# EAGLE library part FI_7M5P (library dtoy-RF)
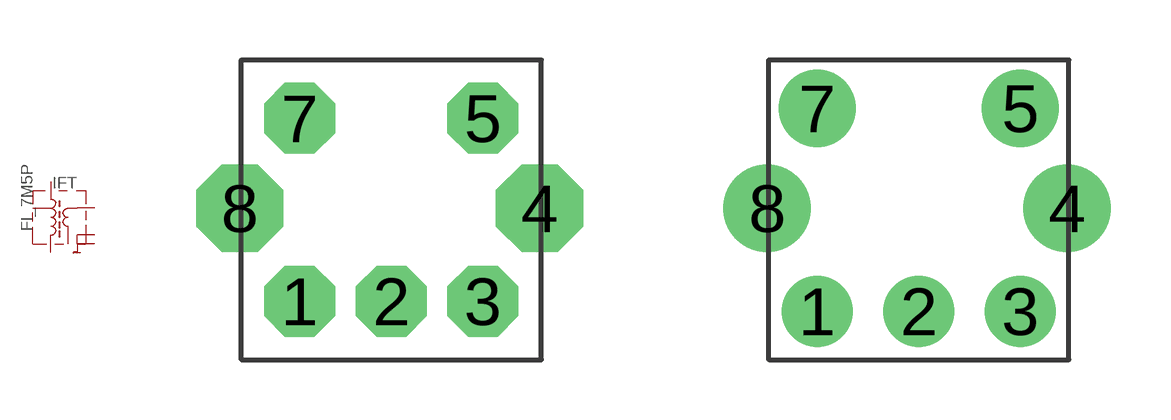
[diagram p0: symbol with the pads of FI_7M5P; footprints FI_7M5P, FI_7M5P_2.54]

Designator prefix IFT

## FI_7M5P7M5P_STD  [FI_7M5P]
1  1  pas
2  2  pas
3  3  pas
4  4  pas
5  5  pas
7  6  pas
8  8  pas

## FI_7M5P7M5P_2.54  [FI_7M5P_2.54]
Pads as for FI_7M5P

## Footprint FI_7M5P (pad centres in mm)
drill 0.813 pad 1.778 octagon: 1 -2.29,-2.29; 2 0,-2.29; 3 2.29,-2.29; 5 2.29,2.29; 7 -2.29,2.29
drill 0.813 pad 2.184 octagon: 4 3.71,0.04; 8 -3.79,0.04

## Footprint FI_7M5P_2.54 (pad centres in mm)
drill 0.813 pad 1.778 round: 1 -2.54,-2.54; 2 0,-2.54; 3 2.54,-2.54
drill 0.813 pad 2.184 round: 4 3.71,0.04; 8 -3.79,0.04
drill 0.813 pad 1.93 round: 5 2.54,2.54; 7 -2.54,2.54